# Altium integrated library Resistors.IntLib: 4954 symbols (part 5 of 32)
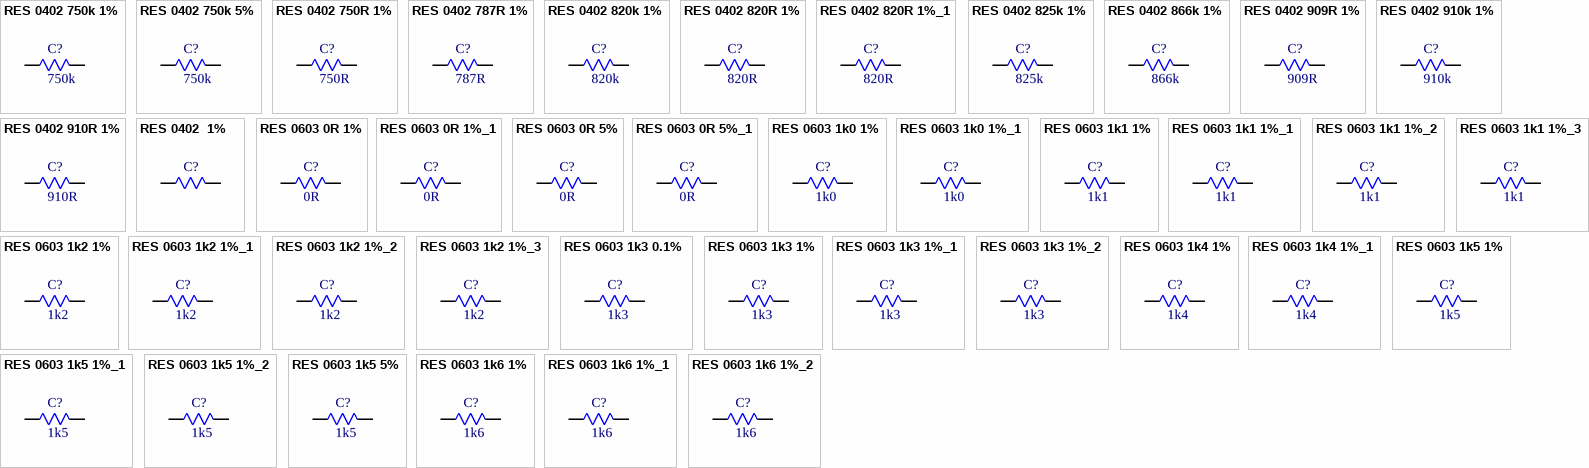
[diagram p127: symbols RES 0402 750k 1% to RES 0603 1k6 1%_2]

## RES 0603 1k5 1%_2
designator C?, comment 1k5
100mW 1.5kR 75V Thick Film Resistor 1% 0603 Chip Resistor - Surface Mount RoHS; Manufacturer: FOJAN; Manufacturer Part Number: FRR0603F1501TS; Supplier: LCSC; Supplier Part Number: C52033509; Resistance: 1k5; Tolerance: 1%; Voltage Rating: 75V; Power: 100mW
footprint RES SMD 0603
pins: 1, 2

## RES 0603 1k5 5%
designator C?, comment 1k5
1.5kR 5% 100mW 0603 Thick Film Resistor; Manufacturer: FOJAN; Manufacturer Part Number: FRC0603J152 TS; Voltage Rating: 75V; Supplier: LCSC; Supplier Part Number: C2907083; Resistance: 1k5; Tolerance: 5%; Power: 100mW
footprint RES SMD 0603
pins: 1, 2

## RES 0603 1k6 1%
designator C?, comment 1k6
1.69kR 1% 100mW 0603 Thick Film Resistor; Manufacturer: FOJAN; Manufacturer Part Number: FRC0603F1691TS; Voltage Rating: 75V; Supplier: LCSC; Supplier Part Number: C2933157; Resistance: 1k6; Tolerance: 1%; Power: 100mW
footprint RES SMD 0603
pins: 1, 2

## RES 0603 1k6 1%_1
designator C?, comment 1k6
1.6kR 1% 100mW 0603 Thick Film Resistor; Manufacturer: FOJAN; Manufacturer Part Number: FRC0603F1601TS; Voltage Rating: 75V; Supplier: LCSC; Supplier Part Number: C2930052; Resistance: 1k6; Tolerance: 1%; Power: 100mW
footprint RES SMD 0603
pins: 1, 2

## RES 0603 1k6 1%_2
designator C?, comment 1k6
100mW 1.6kR 75V Thick Film Resistor 100ppm/â„ƒ 1% 0603 Chip Resistor - Surface Mount RoHS; Manufacturer: FOJAN; Manufacturer Part Number: FRQ0603F1601TS; Supplier: LCSC; Supplier Part Number: C49196901; Resistance: 1k6; Tolerance: 1%; Voltage Rating: 75V; Power: 100mW
footprint RES SMD 0603
pins: 1, 2

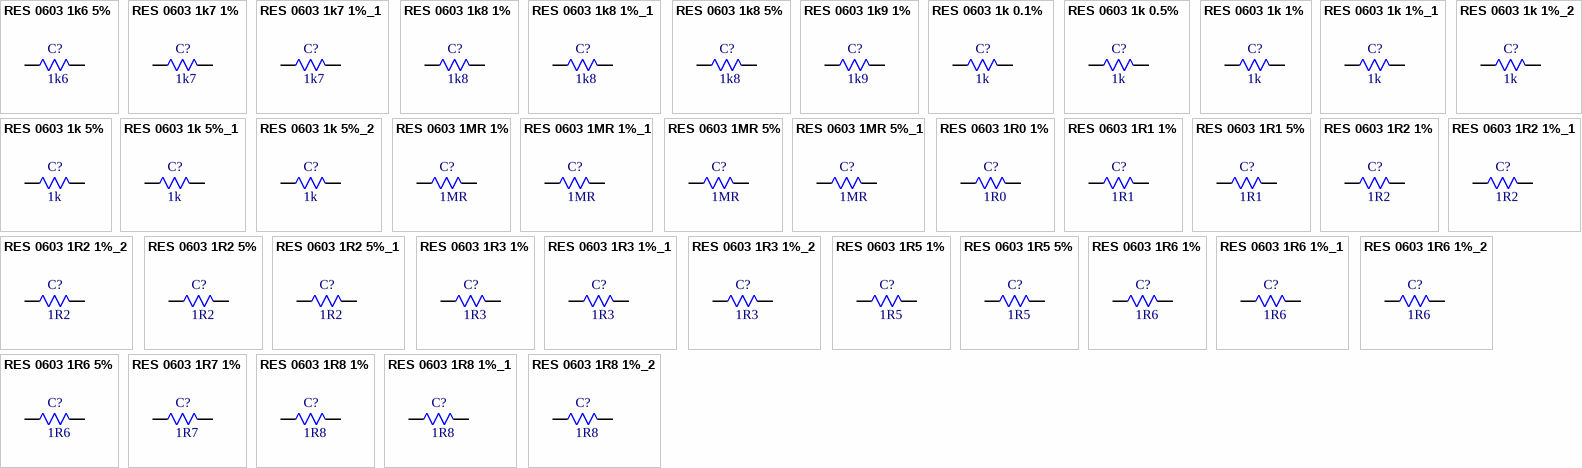
[diagram p16: symbols RES 0603 1k6 5% to RES 0603 1R8 1%_2]

## RES 0603 1k6 5%
designator C?, comment 1k6
1.6kR 5% 100mW 0603 Thick Film Resistor; Manufacturer: FOJAN; Manufacturer Part Number: FRC0603J162 TS; Voltage Rating: 75V; Supplier: LCSC; Supplier Part Number: C2907085; Resistance: 1k6; Tolerance: 5%; Power: 100mW
footprint RES SMD 0603
pins: 1, 2

## RES 0603 1k7 1%
designator C?, comment 1k7
1.74kR 1% 100mW 0603 Thick Film Resistor; Manufacturer: FOJAN; Manufacturer Part Number: FRC0603F1741TS; Voltage Rating: 75V; Supplier: LCSC; Supplier Part Number: C2930053; Resistance: 1k7; Tolerance: 1%; Power: 100mW
footprint RES SMD 0603
pins: 1, 2

## RES 0603 1k7 1%_1
designator C?, comment 1k7
1.78kR 1% 100mW 0603 Thick Film Resistor; Manufacturer: FOJAN; Manufacturer Part Number: FRC0603F1781TS; Voltage Rating: 75V; Supplier: LCSC; Supplier Part Number: C2974030; Resistance: 1k7; Tolerance: 1%; Power: 100mW
footprint RES SMD 0603
pins: 1, 2

## RES 0603 1k8 1%
designator C?, comment 1k8
1.8kR 1% 100mW 0603 Thick Film Resistor; Manufacturer: FOJAN; Manufacturer Part Number: FRC0603F1801TS; Voltage Rating: 75V; Supplier: LCSC; Supplier Part Number: C2906979; Resistance: 1k8; Tolerance: 1%; Power: 100mW
footprint RES SMD 0603
pins: 1, 2

## RES 0603 1k8 1%_1
designator C?, comment 1k8
100mW 1.8kR 75V Thick Film Resistor 1% 0603 Chip Resistor - Surface Mount RoHS; Manufacturer: FOJAN; Manufacturer Part Number: FRQ0603F1801TS; Supplier: LCSC; Supplier Part Number: C51048243; Resistance: 1k8; Tolerance: 1%; Voltage Rating: 75V; Power: 100mW
footprint RES SMD 0603
pins: 1, 2

## RES 0603 1k8 5%
designator C?, comment 1k8
1.8kR 5% 100mW 0603 Thick Film Resistor; Manufacturer: FOJAN; Manufacturer Part Number: FRC0603J182 TS; Voltage Rating: 75V; Supplier: LCSC; Supplier Part Number: C2907086; Resistance: 1k8; Tolerance: 5%; Power: 100mW
footprint RES SMD 0603
pins: 1, 2

## RES 0603 1k9 1%
designator C?, comment 1k9
1.96kR 1% 100mW 0603 Thick Film Resistor; Manufacturer: FOJAN; Manufacturer Part Number: FRC0603F1961TS; Voltage Rating: 75V; Supplier: LCSC; Supplier Part Number: C2998107; Resistance: 1k9; Tolerance: 1%; Power: 100mW
footprint RES SMD 0603
pins: 1, 2

## RES 0603 1k 0.1%
designator C?, comment 1k
100mW 1kR 75V Thick Film Resistor 100ppm/â„ƒ 0.1% 0603 Chip Resistor - Surface Mount RoHS; Manufacturer: FOJAN; Manufacturer Part Number: FRH0603B1001TS; Supplier: LCSC; Supplier Part Number: C49196685; Resistance: 1k; Tolerance: 0.1%; Voltage Rating: 75V; Power: 100mW
footprint RES SMD 0603
pins: 1, 2

## RES 0603 1k 0.5%
designator C?, comment 1k
1kR 0.5% 100mW 0603 Thick Film Resistor; Manufacturer: FOJAN; Manufacturer Part Number: FRH0603D1001TSV; Voltage Rating: 75V; Supplier: LCSC; Supplier Part Number: C3013341; Resistance: 1k; Tolerance: 0.5%; Power: 100mW
footprint RES SMD 0603
pins: 1, 2

## RES 0603 1k 1%
designator C?, comment 1k
1kR 1% 100mW 0603 Thick Film Resistor; Manufacturer: FOJAN; Manufacturer Part Number: FRC0603F1001TS; Voltage Rating: 75V; Supplier: LCSC; Supplier Part Number: C2907002; Resistance: 1k; Tolerance: 1%; Power: 100mW
footprint RES SMD 0603
pins: 1, 2

## RES 0603 1k 1%_1
designator C?, comment 1k
100mW 1kR 75V Thick Film Resistor 1% 100ppm/â„ƒ 0603 Chip Resistor - Surface Mount RoHS; Manufacturer: FOJAN; Manufacturer Part Number: FRQ0603F1001TS; Supplier: LCSC; Supplier Part Number: C7468527; Resistance: 1k; Tolerance: 1%; Voltage Rating: 75V; Power: 100mW
footprint RES SMD 0603
pins: 1, 2

## RES 0603 1k 1%_2
designator C?, comment 1k
1kR 100mW 75V Thick Film Resistor 1% 0603 Chip Resistor - Surface Mount RoHS; Manufacturer: FOJAN; Manufacturer Part Number: FRR0603F1001TS; Supplier: LCSC; Supplier Part Number: C51048202; Resistance: 1k; Tolerance: 1%; Voltage Rating: 75V; Power: 100mW
footprint RES SMD 0603
pins: 1, 2

## RES 0603 1k 5%
designator C?, comment 1k
1kR 5% 100mW 0603 Thick Film Resistor AEC-Q200; Manufacturer: FOJAN; Manufacturer Part Number: FRQ0603J102 TS; Voltage Rating: 75V; Supplier: LCSC; Supplier Part Number: C2934391; Resistance: 1k; Tolerance: 5%; Power: 100mW
footprint RES SMD 0603
pins: 1, 2

## RES 0603 1k 5%_1
designator C?, comment 1k
1kR 5% 100mW 0603 Thick Film Resistor; Manufacturer: FOJAN; Manufacturer Part Number: FRC0603J102 TS; Voltage Rating: 75V; Supplier: LCSC; Supplier Part Number: C2907113; Resistance: 1k; Tolerance: 5%; Power: 100mW
footprint RES SMD 0603
pins: 1, 2

## RES 0603 1k 5%_2
designator C?, comment 1k
1kR 100mW 75V Thick Film Resistor 100ppm/â„ƒ 5% 0603 Chip Resistor - Surface Mount RoHS; Manufacturer: FOJAN; Manufacturer Part Number: FRR0603J102 TS; Supplier: LCSC; Supplier Part Number: C49196793; Resistance: 1k; Tolerance: 5%; Voltage Rating: 75V; Power: 100mW
footprint RES SMD 0603
pins: 1, 2

## RES 0603 1MR 1%
designator C?, comment 1MR
1MR 1% 100mW 0603 Thick Film Resistor; Manufacturer: FOJAN; Manufacturer Part Number: FRC0603F1004TS; Voltage Rating: 75V; Supplier: LCSC; Supplier Part Number: C2907003; Resistance: 1MR; Tolerance: 1%; Power: 100mW
footprint RES SMD 0603
pins: 1, 2

## RES 0603 1MR 1%_1
designator C?, comment 1MR
100mW 1MR 75V Thick Film Resistor 1% 0603 Chip Resistor - Surface Mount RoHS; Manufacturer: FOJAN; Manufacturer Part Number: FRQ0603F1004TS; Supplier: LCSC; Supplier Part Number: C51048116; Resistance: 1MR; Tolerance: 1%; Voltage Rating: 75V; Power: 100mW
footprint RES SMD 0603
pins: 1, 2

## RES 0603 1MR 5%
designator C?, comment 1MR
1MR 5% 100mW 0603 Thick Film Resistor; Manufacturer: FOJAN; Manufacturer Part Number: FRC0603J105 TS; Voltage Rating: 75V; Supplier: LCSC; Supplier Part Number: C2907115; Resistance: 1MR; Tolerance: 5%; Power: 100mW
footprint RES SMD 0603
pins: 1, 2

## RES 0603 1MR 5%_1
designator C?, comment 1MR
1MR 5% 100mW 0603 Thick Film Resistor AEC-Q200; Manufacturer: FOJAN; Manufacturer Part Number: FRQ0603J105 TS; Voltage Rating: 75V; Supplier: LCSC; Supplier Part Number: C2934393; Resistance: 1MR; Tolerance: 5%; Power: 100mW
footprint RES SMD 0603
pins: 1, 2

## RES 0603 1R0 1%
designator C?, comment 1R0
1.05MR 1% 100mW 0603 Thick Film Resistor; Manufacturer: FOJAN; Manufacturer Part Number: FRC0603F1054TS; Voltage Rating: 75V; Supplier: LCSC; Supplier Part Number: C5126052; Resistance: 1R0; Tolerance: 1%; Power: 100mW
footprint RES SMD 0603
pins: 1, 2

## RES 0603 1R1 1%
designator C?, comment 1R1
1.1MR 1% 100mW 0603 Thick Film Resistor; Manufacturer: FOJAN; Manufacturer Part Number: FRC0603F1104TS; Voltage Rating: 75V; Supplier: LCSC; Supplier Part Number: C2930138; Resistance: 1R1; Tolerance: 1%; Power: 100mW
footprint RES SMD 0603
pins: 1, 2

## RES 0603 1R1 5%
designator C?, comment 1R1
1.1R 5% 100mW 0603 Thick Film Resistor; Manufacturer: FOJAN; Manufacturer Part Number: FRC0603J1R1TS; Voltage Rating: 75V; Supplier: LCSC; Supplier Part Number: C2930019; Resistance: 1R1; Tolerance: 5%; Power: 100mW
footprint RES SMD 0603
pins: 1, 2

## RES 0603 1R2 1%
designator C?, comment 1R2
1.2R 1% 100mW 0603 Thick Film Resistor; Manufacturer: FOJAN; Manufacturer Part Number: FRC0603F1R20TS; Voltage Rating: 75V; Supplier: LCSC; Supplier Part Number: C2930141; Resistance: 1R2; Tolerance: 1%; Power: 100mW
footprint RES SMD 0603
pins: 1, 2

## RES 0603 1R2 1%_1
designator C?, comment 1R2
1.27MR 1% 100mW 0603 Thick Film Resistor; Manufacturer: FOJAN; Manufacturer Part Number: FRC0603F1274TS; Voltage Rating: 75V; Supplier: LCSC; Supplier Part Number: C5713278; Resistance: 1R2; Tolerance: 1%; Power: 100mW
footprint RES SMD 0603
pins: 1, 2

## RES 0603 1R2 1%_2
designator C?, comment 1R2
1.2MR 1% 100mW 0603 Thick Film Resistor; Manufacturer: FOJAN; Manufacturer Part Number: FRC0603F1204TS; Voltage Rating: 75V; Supplier: LCSC; Supplier Part Number: C2930140; Resistance: 1R2; Tolerance: 1%; Power: 100mW
footprint RES SMD 0603
pins: 1, 2

## RES 0603 1R2 5%
designator C?, comment 1R2
1.2MR 5% 100mW 0603 Thick Film Resistor; Manufacturer: FOJAN; Manufacturer Part Number: FRC0603J125TS; Voltage Rating: 75V; Supplier: LCSC; Supplier Part Number: C2930020; Resistance: 1R2; Tolerance: 5%; Power: 100mW
footprint RES SMD 0603
pins: 1, 2

## RES 0603 1R2 5%_1
designator C?, comment 1R2
1.2MR 5% 100mW 0603 Thick Film Resistor AEC-Q200; Manufacturer: FOJAN; Manufacturer Part Number: FRQ0603J125 TS; Voltage Rating: 75V; Supplier: LCSC; Supplier Part Number: C2934394; Resistance: 1R2; Tolerance: 5%; Power: 100mW
footprint RES SMD 0603
pins: 1, 2

## RES 0603 1R3 1%
designator C?, comment 1R3
1.3R 1% 100mW 0603 Thick Film Resistor; Manufacturer: FOJAN; Manufacturer Part Number: FRC0603F1R30TS; Voltage Rating: 75V; Supplier: LCSC; Supplier Part Number: C3013194; Resistance: 1R3; Tolerance: 1%; Power: 100mW
footprint RES SMD 0603
pins: 1, 2

## RES 0603 1R3 1%_1
designator C?, comment 1R3
1.3MR 1% 100mW 0603 Thick Film Resistor; Manufacturer: FOJAN; Manufacturer Part Number: FRC0603F1304TS; Voltage Rating: 75V; Supplier: LCSC; Supplier Part Number: C2974026; Resistance: 1R3; Tolerance: 1%; Power: 100mW
footprint RES SMD 0603
pins: 1, 2

## RES 0603 1R3 1%_2
designator C?, comment 1R3
1.33MR 1% 100mW 0603 Thick Film Resistor; Manufacturer: FOJAN; Manufacturer Part Number: FRC0603F1334TS; Voltage Rating: 75V; Supplier: LCSC; Supplier Part Number: C5126053; Resistance: 1R3; Tolerance: 1%; Power: 100mW
footprint RES SMD 0603
pins: 1, 2

## RES 0603 1R5 1%
designator C?, comment 1R5
1.5MR 1% 100mW 0603 Thick Film Resistor; Manufacturer: FOJAN; Manufacturer Part Number: FRC0603F1504TS; Voltage Rating: 75V; Supplier: LCSC; Supplier Part Number: C2930143; Resistance: 1R5; Tolerance: 1%; Power: 100mW
footprint RES SMD 0603
pins: 1, 2

## RES 0603 1R5 5%
designator C?, comment 1R5
1.5MR 5% 100mW 0603 Thick Film Resistor; Manufacturer: FOJAN; Manufacturer Part Number: FRC0603J155TS; Voltage Rating: 75V; Supplier: LCSC; Supplier Part Number: C2930024; Resistance: 1R5; Tolerance: 5%; Power: 100mW
footprint RES SMD 0603
pins: 1, 2

## RES 0603 1R6 1%
designator C?, comment 1R6
1.6R 1% 100mW 0603 Thick Film Resistor; Manufacturer: FOJAN; Manufacturer Part Number: FRC0603F1R60TS; Voltage Rating: 75V; Supplier: LCSC; Supplier Part Number: C2930144; Resistance: 1R6; Tolerance: 1%; Power: 100mW
footprint RES SMD 0603
pins: 1, 2

## RES 0603 1R6 1%_1
designator C?, comment 1R6
1.65MR 1% 100mW 0603 Thick Film Resistor; Manufacturer: FOJAN; Manufacturer Part Number: FRC0603F1654TS; Voltage Rating: 75V; Supplier: LCSC; Supplier Part Number: C2999469; Resistance: 1R6; Tolerance: 1%; Power: 100mW
footprint RES SMD 0603
pins: 1, 2

## RES 0603 1R6 1%_2
designator C?, comment 1R6
1.6MR 1% 100mW 0603 Thick Film Resistor; Manufacturer: FOJAN; Manufacturer Part Number: FRC0603F1604TS; Voltage Rating: 75V; Supplier: LCSC; Supplier Part Number: C2999520; Resistance: 1R6; Tolerance: 1%; Power: 100mW
footprint RES SMD 0603
pins: 1, 2

## RES 0603 1R6 5%
designator C?, comment 1R6
1.6MR 5% 100mW 0603 Thick Film Resistor; Manufacturer: FOJAN; Manufacturer Part Number: FRC0603J165 TS; Voltage Rating: 75V; Supplier: LCSC; Supplier Part Number: C2933272; Resistance: 1R6; Tolerance: 5%; Power: 100mW
footprint RES SMD 0603
pins: 1, 2

## RES 0603 1R7 1%
designator C?, comment 1R7
1.74MR 1% 100mW 0603 Thick Film Resistor; Manufacturer: FOJAN; Manufacturer Part Number: FRC0603F1744TS; Voltage Rating: 75V; Supplier: LCSC; Supplier Part Number: C5126100; Resistance: 1R7; Tolerance: 1%; Power: 100mW
footprint RES SMD 0603
pins: 1, 2

## RES 0603 1R8 1%
designator C?, comment 1R8
1.8R 1% 100mW 0603 Thick Film Resistor; Manufacturer: FOJAN; Manufacturer Part Number: FRC0603F1R80TS; Voltage Rating: 75V; Supplier: LCSC; Supplier Part Number: C2933167; Resistance: 1R8; Tolerance: 1%; Power: 100mW
footprint RES SMD 0603
pins: 1, 2

## RES 0603 1R8 1%_1
designator C?, comment 1R8
1.8MR 1% 100mW 0603 Thick Film Resistor; Manufacturer: FOJAN; Manufacturer Part Number: FRC0603F1804TS; Voltage Rating: 75V; Supplier: LCSC; Supplier Part Number: C2933162; Resistance: 1R8; Tolerance: 1%; Power: 100mW
footprint RES SMD 0603
pins: 1, 2

## RES 0603 1R8 1%_2
designator C?, comment 1R8
1.82MR 1% 100mW 0603 Thick Film Resistor; Manufacturer: FOJAN; Manufacturer Part Number: FRC0603F1824TS; Voltage Rating: 75V; Supplier: LCSC; Supplier Part Number: C2998105; Resistance: 1R8; Tolerance: 1%; Power: 100mW
footprint RES SMD 0603
pins: 1, 2

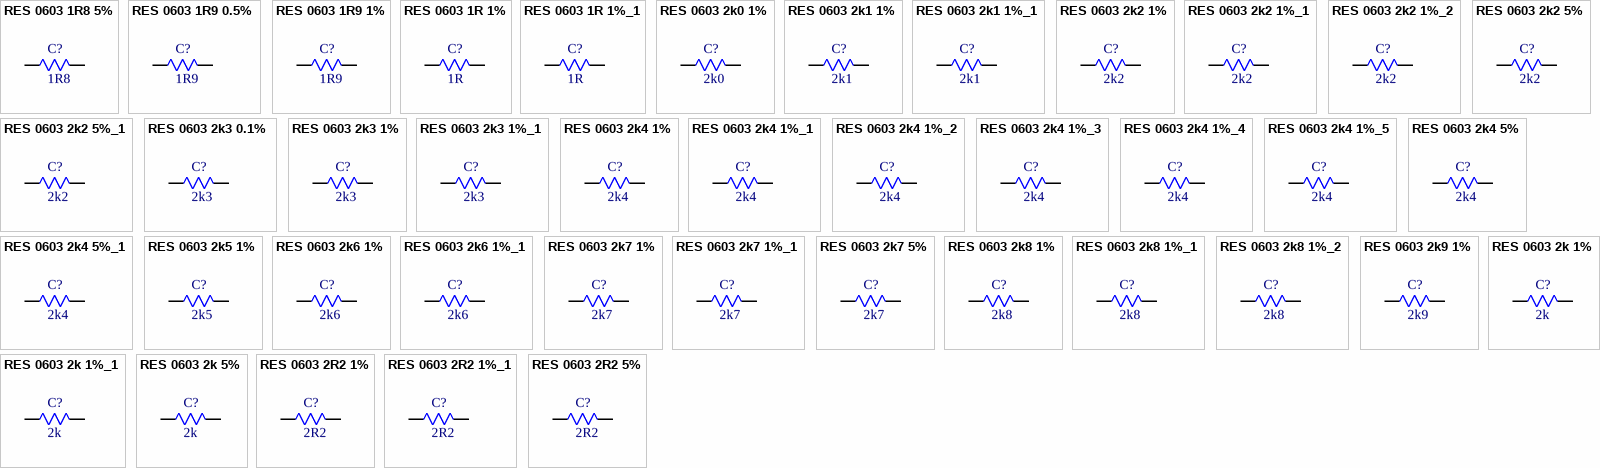
[diagram p17: symbols RES 0603 1R8 5% to RES 0603 2R2 5%]

## RES 0603 1R8 5%
designator C?, comment 1R8
1.8MR 5% 100mW 0603 Thick Film Resistor; Manufacturer: FOJAN; Manufacturer Part Number: FRC0603J185TS; Voltage Rating: 75V; Supplier: LCSC; Supplier Part Number: C2930026; Resistance: 1R8; Tolerance: 5%; Power: 100mW
footprint RES SMD 0603
pins: 1, 2

## RES 0603 1R9 0.5%
designator C?, comment 1R9
100mW 1.91MR 75V Thick Film Resistor 100ppm/â„ƒ 0.5% 0603 Chip Resistor - Surface Mount RoHS; Manufacturer: FOJAN; Manufacturer Part Number: FRH0603D1914TS; Supplier: LCSC; Supplier Part Number: C49196898; Resistance: 1R9; Tolerance: 0.5%; Voltage Rating: 75V; Power: 100mW
footprint RES SMD 0603
pins: 1, 2

## RES 0603 1R9 1%
designator C?, comment 1R9
1.96MR 1% 100mW 0603 Thick Film Resistor; Manufacturer: FOJAN; Manufacturer Part Number: FRC0603F1964TS; Voltage Rating: 75V; Supplier: LCSC; Supplier Part Number: C5126101; Resistance: 1R9; Tolerance: 1%; Power: 100mW
footprint RES SMD 0603
pins: 1, 2

## RES 0603 1R 1%
designator C?, comment 1R
1R 1% 100mW 0603 Thick Film Resistor; Manufacturer: FOJAN; Manufacturer Part Number: FRC0603F1R00TS; Voltage Rating: 75V; Supplier: LCSC; Supplier Part Number: C2907004; Resistance: 1R; Tolerance: 1%; Power: 100mW
footprint RES SMD 0603
pins: 1, 2

## RES 0603 1R 1%_1
designator C?, comment 1R
1R 100mW 75V Thick Film Resistor 200ppm/â„ƒ 1% 0603 Chip Resistor - Surface Mount RoHS; Manufacturer: FOJAN; Manufacturer Part Number: FRQ0603F1R00TS; Supplier: LCSC; Supplier Part Number: C7468661; Resistance: 1R; Tolerance: 1%; Voltage Rating: 75V; Power: 100mW
footprint RES SMD 0603
pins: 1, 2

## RES 0603 2k0 1%
designator C?, comment 2k0
2.05kR 1% 100mW 0603 Thick Film Resistor; Manufacturer: FOJAN; Manufacturer Part Number: FRC0603F2051TS; Voltage Rating: 75V; Supplier: LCSC; Supplier Part Number: C2998113; Resistance: 2k0; Tolerance: 1%; Power: 100mW
footprint RES SMD 0603
pins: 1, 2

## RES 0603 2k1 1%
designator C?, comment 2k1
2.15kR 1% 100mW 0603 Thick Film Resistor; Manufacturer: FOJAN; Manufacturer Part Number: FRC0603F2151TS; Voltage Rating: 75V; Supplier: LCSC; Supplier Part Number: C2960889; Resistance: 2k1; Tolerance: 1%; Power: 100mW
footprint RES SMD 0603
pins: 1, 2

## RES 0603 2k1 1%_1
designator C?, comment 2k1
2.1kR 1% 100mW 0603 Thick Film Resistor; Manufacturer: FOJAN; Manufacturer Part Number: FRC0603F2101TS; Voltage Rating: 75V; Supplier: LCSC; Supplier Part Number: C2960801; Resistance: 2k1; Tolerance: 1%; Power: 100mW
footprint RES SMD 0603
pins: 1, 2

## RES 0603 2k2 1%
designator C?, comment 2k2
2.2kR 1% 100mW 0603 Thick Film Resistor; Manufacturer: FOJAN; Manufacturer Part Number: FRC0603F2201TS; Voltage Rating: 75V; Supplier: LCSC; Supplier Part Number: C2907005; Resistance: 2k2; Tolerance: 1%; Power: 100mW
footprint RES SMD 0603
pins: 1, 2

## RES 0603 2k2 1%_1
designator C?, comment 2k2
2.21kR 1% 100mW 0603 Thick Film Resistor; Manufacturer: FOJAN; Manufacturer Part Number: FRC0603F2211TS; Voltage Rating: 75V; Supplier: LCSC; Supplier Part Number: C2933171; Resistance: 2k2; Tolerance: 1%; Power: 100mW
footprint RES SMD 0603
pins: 1, 2

## RES 0603 2k2 1%_2
designator C?, comment 2k2
2.2kR 1% 100mW 0603 Thick Film Resistor AEC-Q200; Manufacturer: FOJAN; Manufacturer Part Number: FRQ0603F2201TS; Voltage Rating: 75V; Supplier: LCSC; Supplier Part Number: C5713434; Resistance: 2k2; Tolerance: 1%; Power: 100mW
footprint RES SMD 0603
pins: 1, 2

## RES 0603 2k2 5%
designator C?, comment 2k2
2.2kR 5% 100mW 0603 Thick Film Resistor; Manufacturer: FOJAN; Manufacturer Part Number: FRC0603J222 TS; Voltage Rating: 75V; Supplier: LCSC; Supplier Part Number: C2907117; Resistance: 2k2; Tolerance: 5%; Power: 100mW
footprint RES SMD 0603
pins: 1, 2

## RES 0603 2k2 5%_1
designator C?, comment 2k2
2.2kR 100mW 75V Thick Film Resistor 100ppm/â„ƒ 5% 0603 Chip Resistor - Surface Mount RoHS; Manufacturer: FOJAN; Manufacturer Part Number: FRR0603J222 TS; Supplier: LCSC; Supplier Part Number: C49196799; Resistance: 2k2; Tolerance: 5%; Voltage Rating: 75V; Power: 100mW
footprint RES SMD 0603
pins: 1, 2

## RES 0603 2k3 0.1%
designator C?, comment 2k3
100mW 2.37kR 75V Thick Film Resistor 100ppm/â„ƒ 0.1% 0603 Chip Resistor - Surface Mount RoHS; Manufacturer: FOJAN; Manufacturer Part Number: FRH0603B2371TS; Supplier: LCSC; Supplier Part Number: C49010119; Resistance: 2k3; Tolerance: 0.1%; Voltage Rating: 75V; Power: 100mW
footprint RES SMD 0603
pins: 1, 2

## RES 0603 2k3 1%
designator C?, comment 2k3
2.32kR 1% 100mW 0603 Thick Film Resistor; Manufacturer: FOJAN; Manufacturer Part Number: FRC0603F2321TS; Voltage Rating: 75V; Supplier: LCSC; Supplier Part Number: C2933173; Resistance: 2k3; Tolerance: 1%; Power: 100mW
footprint RES SMD 0603
pins: 1, 2

## RES 0603 2k3 1%_1
designator C?, comment 2k3
2.37kR 1% 100mW 0603 Thick Film Resistor; Manufacturer: FOJAN; Manufacturer Part Number: FRC0603F2371TS; Voltage Rating: 75V; Supplier: LCSC; Supplier Part Number: C2933174; Resistance: 2k3; Tolerance: 1%; Power: 100mW
footprint RES SMD 0603
pins: 1, 2

## RES 0603 2k4 1%
designator C?, comment 2k4
2.49kR 1% 100mW 0603 Thick Film Resistor; Manufacturer: FOJAN; Manufacturer Part Number: FRC0603F2491TS; Voltage Rating: 75V; Supplier: LCSC; Supplier Part Number: C2930072; Resistance: 2k4; Tolerance: 1%; Power: 100mW
footprint RES SMD 0603
pins: 1, 2

## RES 0603 2k4 1%_1
designator C?, comment 2k4
2.4kR 1% 100mW 0603 Thick Film Resistor; Manufacturer: FOJAN; Manufacturer Part Number: FRC0603F2401TS; Voltage Rating: 75V; Supplier: LCSC; Supplier Part Number: C2907007; Resistance: 2k4; Tolerance: 1%; Power: 100mW
footprint RES SMD 0603
pins: 1, 2

## RES 0603 2k4 1%_2
designator C?, comment 2k4
2.43kR 1% 100mW 0603 Thick Film Resistor; Manufacturer: FOJAN; Manufacturer Part Number: FRC0603F2431TS; Voltage Rating: 75V; Supplier: LCSC; Supplier Part Number: C2960715; Resistance: 2k4; Tolerance: 1%; Power: 100mW
footprint RES SMD 0603
pins: 1, 2

## RES 0603 2k4 1%_3
designator C?, comment 2k4
100mW 2.43kR 75V Thick Film Resistor 100ppm/â„ƒ 1% 0603 Chip Resistor - Surface Mount RoHS; Manufacturer: FOJAN; Manufacturer Part Number: FRR0603F2431TS; Supplier: LCSC; Supplier Part Number: C49196766; Resistance: 2k4; Tolerance: 1%; Voltage Rating: 75V; Power: 100mW
footprint RES SMD 0603
pins: 1, 2

## RES 0603 2k4 1%_4
designator C?, comment 2k4
2.4kR 100mW 75V Thick Film Resistor 1% 100ppm/â„ƒ 0603 Chip Resistor - Surface Mount RoHS; Manufacturer: FOJAN; Manufacturer Part Number: FRQ0603F2401TS; Supplier: LCSC; Supplier Part Number: C7468683; Resistance: 2k4; Tolerance: 1%; Voltage Rating: 75V; Power: 100mW
footprint RES SMD 0603
pins: 1, 2

## RES 0603 2k4 1%_5
designator C?, comment 2k4
2.49kR 100mW Thick Film Resistor 1% 100ppm/â„ƒ 0603 Chip Resistor - Surface Mount RoHS; Manufacturer: FOJAN; Manufacturer Part Number: FRQ0603F2491TS; Supplier: LCSC; Supplier Part Number: C7468533; Resistance: 2k4; Tolerance: 1%; Power: 100mW
footprint RES SMD 0603
pins: 1, 2

## RES 0603 2k4 5%
designator C?, comment 2k4
2.4kR 5% 100mW 0603 Thick Film Resistor; Manufacturer: FOJAN; Manufacturer Part Number: FRC0603J242 TS; Voltage Rating: 75V; Supplier: LCSC; Supplier Part Number: C2907118; Resistance: 2k4; Tolerance: 5%; Power: 100mW
footprint RES SMD 0603
pins: 1, 2

## RES 0603 2k4 5%_1
designator C?, comment 2k4
2.4kR 5% 100mW 0603 Thick Film Resistor AEC-Q200; Manufacturer: FOJAN; Manufacturer Part Number: FRQ0603J242 TS; Voltage Rating: 75V; Supplier: LCSC; Supplier Part Number: C5713445; Resistance: 2k4; Tolerance: 5%; Power: 100mW
footprint RES SMD 0603
pins: 1, 2

## RES 0603 2k5 1%
designator C?, comment 2k5
2.55kR 1% 100mW 0603 Thick Film Resistor; Manufacturer: FOJAN; Manufacturer Part Number: FRC0603F2551TS; Voltage Rating: 75V; Supplier: LCSC; Supplier Part Number: C2933178; Resistance: 2k5; Tolerance: 1%; Power: 100mW
footprint RES SMD 0603
pins: 1, 2

## RES 0603 2k6 1%
designator C?, comment 2k6
2.67kR 1% 100mW 0603 Thick Film Resistor; Manufacturer: FOJAN; Manufacturer Part Number: FRC0603F2671TS; Voltage Rating: 75V; Supplier: LCSC; Supplier Part Number: C2933184; Resistance: 2k6; Tolerance: 1%; Power: 100mW
footprint RES SMD 0603
pins: 1, 2

## RES 0603 2k6 1%_1
designator C?, comment 2k6
2.61kR 1% 100mW 0603 Thick Film Resistor; Manufacturer: FOJAN; Manufacturer Part Number: FRC0603F2611TS; Voltage Rating: 75V; Supplier: LCSC; Supplier Part Number: C2933181; Resistance: 2k6; Tolerance: 1%; Power: 100mW
footprint RES SMD 0603
pins: 1, 2

## RES 0603 2k7 1%
designator C?, comment 2k7
2.7kR 1% 100mW 0603 Thick Film Resistor; Manufacturer: FOJAN; Manufacturer Part Number: FRC0603F2701TS; Voltage Rating: 75V; Supplier: LCSC; Supplier Part Number: C2907008; Resistance: 2k7; Tolerance: 1%; Power: 100mW
footprint RES SMD 0603
pins: 1, 2

## RES 0603 2k7 1%_1
designator C?, comment 2k7
2.7kR 1% 100mW 0603 Thick Film Resistor AEC-Q200; Manufacturer: FOJAN; Manufacturer Part Number: FRQ0603F2701TS; Voltage Rating: 75V; Supplier: LCSC; Supplier Part Number: C5713435; Resistance: 2k7; Tolerance: 1%; Power: 100mW
footprint RES SMD 0603
pins: 1, 2

## RES 0603 2k7 5%
designator C?, comment 2k7
2.7kR 5% 100mW 0603 Thick Film Resistor; Manufacturer: FOJAN; Manufacturer Part Number: FRC0603J272 TS; Voltage Rating: 75V; Supplier: LCSC; Supplier Part Number: C2907121; Resistance: 2k7; Tolerance: 5%; Power: 100mW
footprint RES SMD 0603
pins: 1, 2

## RES 0603 2k8 1%
designator C?, comment 2k8
2.8kR 1% 100mW 0603 Thick Film Resistor; Manufacturer: FOJAN; Manufacturer Part Number: FRC0603F2801TS; Voltage Rating: 75V; Supplier: LCSC; Supplier Part Number: C2933188; Resistance: 2k8; Tolerance: 1%; Power: 100mW
footprint RES SMD 0603
pins: 1, 2

## RES 0603 2k8 1%_1
designator C?, comment 2k8
2.8kR 100mW 75V Thick Film Resistor 100ppm/â„ƒ 1% 0603 Chip Resistor - Surface Mount RoHS; Manufacturer: FOJAN; Manufacturer Part Number: FRR0603F2801TS; Supplier: LCSC; Supplier Part Number: C49196769; Resistance: 2k8; Tolerance: 1%; Voltage Rating: 75V; Power: 100mW
footprint RES SMD 0603
pins: 1, 2

## RES 0603 2k8 1%_2
designator C?, comment 2k8
2.87kR 1% 100mW 0603 Thick Film Resistor; Manufacturer: FOJAN; Manufacturer Part Number: FRC0603F2871TS; Voltage Rating: 75V; Supplier: LCSC; Supplier Part Number: C2933189; Resistance: 2k8; Tolerance: 1%; Power: 100mW
footprint RES SMD 0603
pins: 1, 2

## RES 0603 2k9 1%
designator C?, comment 2k9
2.94kR 1% 100mW 0603 Thick Film Resistor; Manufacturer: FOJAN; Manufacturer Part Number: FRC0603F2941TS; Voltage Rating: 75V; Supplier: LCSC; Supplier Part Number: C2933190; Resistance: 2k9; Tolerance: 1%; Power: 100mW
footprint RES SMD 0603
pins: 1, 2

## RES 0603 2k 1%
designator C?, comment 2k
2kR 1% 100mW 0603 Thick Film Resistor; Manufacturer: FOJAN; Manufacturer Part Number: FRC0603F2001TS; Voltage Rating: 75V; Supplier: LCSC; Supplier Part Number: C2907022; Resistance: 2k; Tolerance: 1%; Power: 100mW
footprint RES SMD 0603
pins: 1, 2

## RES 0603 2k 1%_1
designator C?, comment 2k
2kR 1% 100mW 0603 Thick Film Resistor AEC-Q200; Manufacturer: FOJAN; Manufacturer Part Number: FRQ0603F2001TS; Voltage Rating: 75V; Supplier: LCSC; Supplier Part Number: C5713433; Resistance: 2k; Tolerance: 1%; Power: 100mW
footprint RES SMD 0603
pins: 1, 2

## RES 0603 2k 5%
designator C?, comment 2k
2kR 5% 100mW 0603 Thick Film Resistor; Manufacturer: FOJAN; Manufacturer Part Number: FRC0603J202 TS; Voltage Rating: 75V; Supplier: LCSC; Supplier Part Number: C2907137; Resistance: 2k; Tolerance: 5%; Power: 100mW
footprint RES SMD 0603
pins: 1, 2

## RES 0603 2R2 1%
designator C?, comment 2R2
2.2R 1% 100mW 0603 Thick Film Resistor; Manufacturer: FOJAN; Manufacturer Part Number: FRC0603F2R20TS; Voltage Rating: 75V; Supplier: LCSC; Supplier Part Number: C2907006; Resistance: 2R2; Tolerance: 1%; Power: 100mW
footprint RES SMD 0603
pins: 1, 2

## RES 0603 2R2 1%_1
designator C?, comment 2R2
2.2MR 1% 100mW 0603 Thick Film Resistor; Manufacturer: FOJAN; Manufacturer Part Number: FRC0603F2204TS; Voltage Rating: 75V; Supplier: LCSC; Supplier Part Number: C2933170; Resistance: 2R2; Tolerance: 1%; Power: 100mW
footprint RES SMD 0603
pins: 1, 2

## RES 0603 2R2 5%
designator C?, comment 2R2
2.2MR 5% 100mW 0603 Thick Film Resistor; Manufacturer: FOJAN; Manufacturer Part Number: FRC0603J225TS; Voltage Rating: 75V; Supplier: LCSC; Supplier Part Number: C2930031; Resistance: 2R2; Tolerance: 5%; Power: 100mW
footprint RES SMD 0603
pins: 1, 2

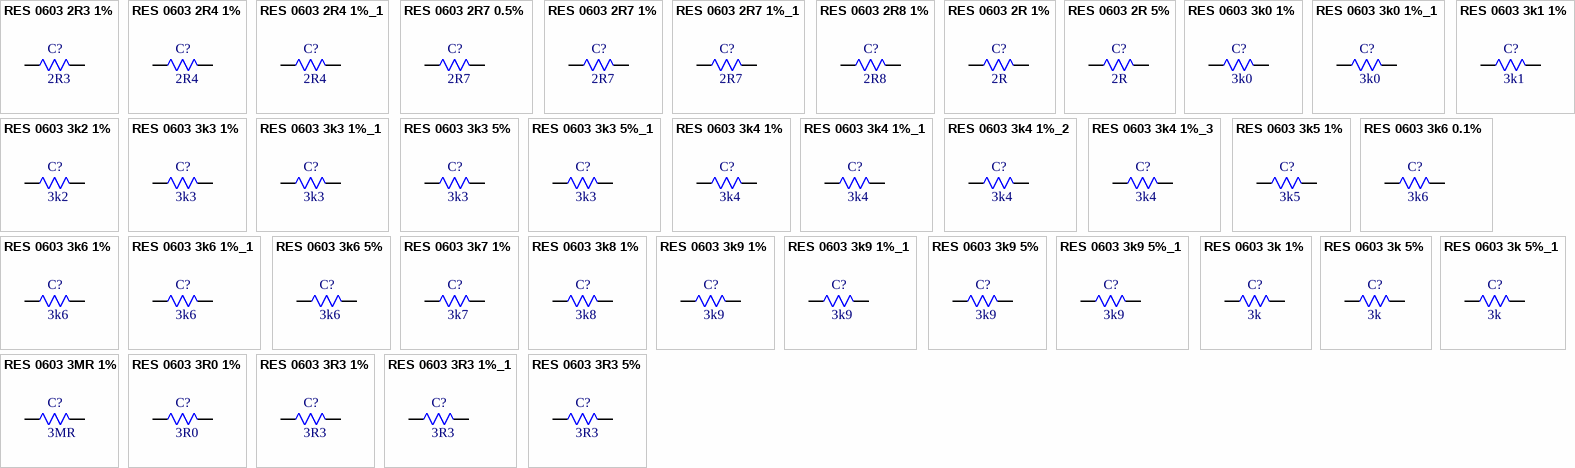
[diagram p18: symbols RES 0603 2R3 1% to RES 0603 3R3 5%]

## RES 0603 2R3 1%
designator C?, comment 2R3
2.37MR 1% 100mW 0603 Thick Film Resistor; Manufacturer: FOJAN; Manufacturer Part Number: FRC0603F2374TS; Voltage Rating: 75V; Supplier: LCSC; Supplier Part Number: C5713283; Resistance: 2R3; Tolerance: 1%; Power: 100mW
footprint RES SMD 0603
pins: 1, 2

## RES 0603 2R4 1%
designator C?, comment 2R4
2.49MR 1% 100mW 0603 Thick Film Resistor; Manufacturer: FOJAN; Manufacturer Part Number: FRC0603F2494TS; Voltage Rating: 75V; Supplier: LCSC; Supplier Part Number: C2999495; Resistance: 2R4; Tolerance: 1%; Power: 100mW
footprint RES SMD 0603
pins: 1, 2

## RES 0603 2R4 1%_1
designator C?, comment 2R4
2.4R 1% 100mW 0603 Thick Film Resistor; Manufacturer: FOJAN; Manufacturer Part Number: FRC0603F2R40TS; Voltage Rating: 75V; Supplier: LCSC; Supplier Part Number: C2998116; Resistance: 2R4; Tolerance: 1%; Power: 100mW
footprint RES SMD 0603
pins: 1, 2

## RES 0603 2R7 0.5%
designator C?, comment 2R7
2.7MR 100mW 75V Thick Film Resistor 100ppm/â„ƒ 0.5% 0603 Chip Resistor - Surface Mount RoHS; Manufacturer: FOJAN; Manufacturer Part Number: FRH0603D2704TS; Supplier: LCSC; Supplier Part Number: C48533720; Resistance: 2R7; Tolerance: 0.5%; Voltage Rating: 75V; Power: 100mW
footprint RES SMD 0603
pins: 1, 2

## RES 0603 2R7 1%
designator C?, comment 2R7
2.7R 1% 100mW 0603 Thick Film Resistor; Manufacturer: FOJAN; Manufacturer Part Number: FRC0603F2R70TS; Voltage Rating: 75V; Supplier: LCSC; Supplier Part Number: C2960664; Resistance: 2R7; Tolerance: 1%; Power: 100mW
footprint RES SMD 0603
pins: 1, 2

## RES 0603 2R7 1%_1
designator C?, comment 2R7
2.7MR 1% 100mW 0603 Thick Film Resistor; Manufacturer: FOJAN; Manufacturer Part Number: FRC0603F2704TS; Voltage Rating: 75V; Supplier: LCSC; Supplier Part Number: C2930147; Resistance: 2R7; Tolerance: 1%; Power: 100mW
footprint RES SMD 0603
pins: 1, 2

## RES 0603 2R8 1%
designator C?, comment 2R8
2.8MR 1% 100mW 0603 Thick Film Resistor; Manufacturer: FOJAN; Manufacturer Part Number: FRC0603F2804TS; Voltage Rating: 75V; Supplier: LCSC; Supplier Part Number: C42372101; Resistance: 2R8; Tolerance: 1%; Power: 100mW
footprint RES SMD 0603
pins: 1, 2

## RES 0603 2R 1%
designator C?, comment 2R
2R 1% 100mW 0603 Thick Film Resistor; Manufacturer: FOJAN; Manufacturer Part Number: FRC0603F2R00TS; Voltage Rating: 75V; Supplier: LCSC; Supplier Part Number: C2933191; Resistance: 2R; Tolerance: 1%; Power: 100mW
footprint RES SMD 0603
pins: 1, 2

## RES 0603 2R 5%
designator C?, comment 2R
2R 5% 100mW 0603 Thick Film Resistor; Manufacturer: FOJAN; Manufacturer Part Number: FRC0603J2R0 TS; Voltage Rating: 75V; Supplier: LCSC; Supplier Part Number: C2907139; Resistance: 2R; Tolerance: 5%; Power: 100mW
footprint RES SMD 0603
pins: 1, 2

## RES 0603 3k0 1%
designator C?, comment 3k0
3.09kR 1% 100mW 0603 Thick Film Resistor; Manufacturer: FOJAN; Manufacturer Part Number: FRC0603F3091TS; Voltage Rating: 75V; Supplier: LCSC; Supplier Part Number: C2933195; Resistance: 3k0; Tolerance: 1%; Power: 100mW
footprint RES SMD 0603
pins: 1, 2

## RES 0603 3k0 1%_1
designator C?, comment 3k0
3.01kR 1% 100mW 0603 Thick Film Resistor; Manufacturer: FOJAN; Manufacturer Part Number: FRC0603F3011TS; Voltage Rating: 75V; Supplier: LCSC; Supplier Part Number: C2933193; Resistance: 3k0; Tolerance: 1%; Power: 100mW
footprint RES SMD 0603
pins: 1, 2

## RES 0603 3k1 1%
designator C?, comment 3k1
3.16kR 1% 100mW 0603 Thick Film Resistor; Manufacturer: FOJAN; Manufacturer Part Number: FRC0603F3161TS; Voltage Rating: 75V; Supplier: LCSC; Supplier Part Number: C2930087; Resistance: 3k1; Tolerance: 1%; Power: 100mW
footprint RES SMD 0603
pins: 1, 2

## RES 0603 3k2 1%
designator C?, comment 3k2
3.24kR 1% 100mW 0603 Thick Film Resistor; Manufacturer: FOJAN; Manufacturer Part Number: FRC0603F3241TS; Voltage Rating: 75V; Supplier: LCSC; Supplier Part Number: C2933197; Resistance: 3k2; Tolerance: 1%; Power: 100mW
footprint RES SMD 0603
pins: 1, 2

## RES 0603 3k3 1%
designator C?, comment 3k3
3.3kR 1% 100mW 0603 Thick Film Resistor; Manufacturer: FOJAN; Manufacturer Part Number: FRC0603F3301TS; Voltage Rating: 75V; Supplier: LCSC; Supplier Part Number: C2907023; Resistance: 3k3; Tolerance: 1%; Power: 100mW
footprint RES SMD 0603
pins: 1, 2

## RES 0603 3k3 1%_1
designator C?, comment 3k3
3.3kR 100mW 75V Thick Film Resistor 1% 100ppm/â„ƒ 0603 Chip Resistor - Surface Mount RoHS; Manufacturer: FOJAN; Manufacturer Part Number: FRQ0603F3301TS; Supplier: LCSC; Supplier Part Number: C7468553; Resistance: 3k3; Tolerance: 1%; Voltage Rating: 75V; Power: 100mW
footprint RES SMD 0603
pins: 1, 2

## RES 0603 3k3 5%
designator C?, comment 3k3
3.3kR 5% 100mW 0603 Thick Film Resistor; Manufacturer: FOJAN; Manufacturer Part Number: FRC0603J332 TS; Voltage Rating: 75V; Supplier: LCSC; Supplier Part Number: C2907140; Resistance: 3k3; Tolerance: 5%; Power: 100mW
footprint RES SMD 0603
pins: 1, 2

## RES 0603 3k3 5%_1
designator C?, comment 3k3
3.3kR 100mW 75V Thick Film Resistor 100ppm/â„ƒ 5% 0603 Chip Resistor - Surface Mount RoHS; Manufacturer: FOJAN; Manufacturer Part Number: FRR0603J332 TS; Supplier: LCSC; Supplier Part Number: C49196804; Resistance: 3k3; Tolerance: 5%; Voltage Rating: 75V; Power: 100mW
footprint RES SMD 0603
pins: 1, 2

## RES 0603 3k4 1%
designator C?, comment 3k4
3.4kR 1% 100mW 0603 Thick Film Resistor; Manufacturer: FOJAN; Manufacturer Part Number: FRC0603F3401TS; Voltage Rating: 75V; Supplier: LCSC; Supplier Part Number: C2933201; Resistance: 3k4; Tolerance: 1%; Power: 100mW
footprint RES SMD 0603
pins: 1, 2

## RES 0603 3k4 1%_1
designator C?, comment 3k4
3.48kR 1% 100mW 0603 Thick Film Resistor; Manufacturer: FOJAN; Manufacturer Part Number: FRC0603F3481TS; Voltage Rating: 75V; Supplier: LCSC; Supplier Part Number: C2998120; Resistance: 3k4; Tolerance: 1%; Power: 100mW
footprint RES SMD 0603
pins: 1, 2

## RES 0603 3k4 1%_2
designator C?, comment 3k4
3.4kR 1% 100mW 0603 Thick Film Resistor AEC-Q200; Manufacturer: FOJAN; Manufacturer Part Number: FRQ0603F3401TS; Voltage Rating: 75V; Supplier: LCSC; Supplier Part Number: C5713437; Resistance: 3k4; Tolerance: 1%; Power: 100mW
footprint RES SMD 0603
pins: 1, 2

## RES 0603 3k4 1%_3
designator C?, comment 3k4
3.4kR 100mW 75V Thick Film Resistor 100ppm/â„ƒ 1% 0603 Chip Resistor - Surface Mount RoHS; Manufacturer: FOJAN; Manufacturer Part Number: FRR0603F3401TS; Supplier: LCSC; Supplier Part Number: C49196774; Resistance: 3k4; Tolerance: 1%; Voltage Rating: 75V; Power: 100mW
footprint RES SMD 0603
pins: 1, 2

## RES 0603 3k5 1%
designator C?, comment 3k5
3.57kR 1% 100mW 0603 Thick Film Resistor; Manufacturer: FOJAN; Manufacturer Part Number: FRC0603F3571TS; Voltage Rating: 75V; Supplier: LCSC; Supplier Part Number: C2933206; Resistance: 3k5; Tolerance: 1%; Power: 100mW
footprint RES SMD 0603
pins: 1, 2

## RES 0603 3k6 0.1%
designator C?, comment 3k6
100mW 3.65kR 75V Thick Film Resistor 100ppm/â„ƒ 0.1% 0603 Chip Resistor - Surface Mount RoHS; Manufacturer: FOJAN; Manufacturer Part Number: FRH0603B3651TS; Supplier: LCSC; Supplier Part Number: C49196674; Resistance: 3k6; Tolerance: 0.1%; Voltage Rating: 75V; Power: 100mW
footprint RES SMD 0603
pins: 1, 2

## RES 0603 3k6 1%
designator C?, comment 3k6
3.6kR 1% 100mW 0603 Thick Film Resistor; Manufacturer: FOJAN; Manufacturer Part Number: FRC0603F3601TS; Voltage Rating: 75V; Supplier: LCSC; Supplier Part Number: C2933208; Resistance: 3k6; Tolerance: 1%; Power: 100mW
footprint RES SMD 0603
pins: 1, 2

## RES 0603 3k6 1%_1
designator C?, comment 3k6
3.65kR 1% 100mW 0603 Thick Film Resistor; Manufacturer: FOJAN; Manufacturer Part Number: FRC0603F3651TS; Voltage Rating: 75V; Supplier: LCSC; Supplier Part Number: C2930089; Resistance: 3k6; Tolerance: 1%; Power: 100mW
footprint RES SMD 0603
pins: 1, 2

## RES 0603 3k6 5%
designator C?, comment 3k6
3.6kR 5% 100mW 0603 Thick Film Resistor; Manufacturer: FOJAN; Manufacturer Part Number: FRC0603J362 TS; Voltage Rating: 75V; Supplier: LCSC; Supplier Part Number: C2907143; Resistance: 3k6; Tolerance: 5%; Power: 100mW
footprint RES SMD 0603
pins: 1, 2

## RES 0603 3k7 1%
designator C?, comment 3k7
3.74kR 1% 100mW 0603 Thick Film Resistor; Manufacturer: FOJAN; Manufacturer Part Number: FRC0603F3741TS; Voltage Rating: 75V; Supplier: LCSC; Supplier Part Number: C2933210; Resistance: 3k7; Tolerance: 1%; Power: 100mW
footprint RES SMD 0603
pins: 1, 2

## RES 0603 3k8 1%
designator C?, comment 3k8
3.83kR 1% 100mW 0603 Thick Film Resistor; Manufacturer: FOJAN; Manufacturer Part Number: FRC0603F3831TS; Voltage Rating: 75V; Supplier: LCSC; Supplier Part Number: C2933213; Resistance: 3k8; Tolerance: 1%; Power: 100mW
footprint RES SMD 0603
pins: 1, 2

## RES 0603 3k9 1%
designator C?, comment 3k9
3.9kR 1% 100mW 0603 Thick Film Resistor; Manufacturer: FOJAN; Manufacturer Part Number: FRC0603F3901TS; Voltage Rating: 75V; Supplier: LCSC; Supplier Part Number: C2907024; Resistance: 3k9; Tolerance: 1%; Power: 100mW
footprint RES SMD 0603
pins: 1, 2

## RES 0603 3k9 1%_1
designator C?, comment 3k9
3.92kR 1% 100mW 0603 Thick Film Resistor; Manufacturer: FOJAN; Manufacturer Part Number: FRC0603F3921TS; Voltage Rating: 75V; Supplier: LCSC; Supplier Part Number: C2933215; Resistance: 3k9; Tolerance: 1%; Power: 100mW
footprint RES SMD 0603
pins: 1, 2

## RES 0603 3k9 5%
designator C?, comment 3k9
3.9kR 5% 100mW 0603 Thick Film Resistor; Manufacturer: FOJAN; Manufacturer Part Number: FRC0603J392 TS; Voltage Rating: 75V; Supplier: LCSC; Supplier Part Number: C2907145; Resistance: 3k9; Tolerance: 5%; Power: 100mW
footprint RES SMD 0603
pins: 1, 2

## RES 0603 3k9 5%_1
designator C?, comment 3k9
100mW 3.9kR 75V Thick Film Resistor 100ppm/â„ƒ 5% 0603 Chip Resistor - Surface Mount RoHS; Manufacturer: FOJAN; Manufacturer Part Number: FRR0603J392 TS; Supplier: LCSC; Supplier Part Number: C49196805; Resistance: 3k9; Tolerance: 5%; Voltage Rating: 75V; Power: 100mW
footprint RES SMD 0603
pins: 1, 2

## RES 0603 3k 1%
designator C?, comment 3k
3kR 1% 100mW 0603 Thick Film Resistor; Manufacturer: FOJAN; Manufacturer Part Number: FRC0603F3001TS; Voltage Rating: 75V; Supplier: LCSC; Supplier Part Number: C2907033; Resistance: 3k; Tolerance: 1%; Power: 100mW
footprint RES SMD 0603
pins: 1, 2

## RES 0603 3k 5%
designator C?, comment 3k
3kR 5% 100mW 0603 Thick Film Resistor; Manufacturer: FOJAN; Manufacturer Part Number: FRC0603J302 TS; Voltage Rating: 75V; Supplier: LCSC; Supplier Part Number: C2907162; Resistance: 3k; Tolerance: 5%; Power: 100mW
footprint RES SMD 0603
pins: 1, 2

## RES 0603 3k 5%_1
designator C?, comment 3k
100mW 3kR 75V Thick Film Resistor 5% 0603 Chip Resistor - Surface Mount RoHS; Manufacturer: FOJAN; Manufacturer Part Number: FRR0603J302 TS; Supplier: LCSC; Supplier Part Number: C51048111; Resistance: 3k; Tolerance: 5%; Voltage Rating: 75V; Power: 100mW
footprint RES SMD 0603
pins: 1, 2

## RES 0603 3MR 1%
designator C?, comment 3MR
3MR 1% 100mW 0603 Thick Film Resistor; Manufacturer: FOJAN; Manufacturer Part Number: FRC0603F3004TS; Voltage Rating: 75V; Supplier: LCSC; Supplier Part Number: C2930149; Resistance: 3MR; Tolerance: 1%; Power: 100mW
footprint RES SMD 0603
pins: 1, 2

## RES 0603 3R0 1%
designator C?, comment 3R0
3.01MR 100mW 75V Thick Film Resistor 1% 0603 Chip Resistor - Surface Mount RoHS; Manufacturer: FOJAN; Manufacturer Part Number: FRC0603F3014TS; Supplier: LCSC; Supplier Part Number: C51048354; Resistance: 3R0; Tolerance: 1%; Voltage Rating: 75V; Power: 100mW
footprint RES SMD 0603
pins: 1, 2

## RES 0603 3R3 1%
designator C?, comment 3R3
3.3R 1% 100mW 0603 Thick Film Resistor; Manufacturer: FOJAN; Manufacturer Part Number: FRC0603F3R30TS; Voltage Rating: 75V; Supplier: LCSC; Supplier Part Number: C2930016; Resistance: 3R3; Tolerance: 1%; Power: 100mW
footprint RES SMD 0603
pins: 1, 2

## RES 0603 3R3 1%_1
designator C?, comment 3R3
3.3MR 1% 100mW 0603 Thick Film Resistor; Manufacturer: FOJAN; Manufacturer Part Number: FRC0603F3304TS; Voltage Rating: 75V; Supplier: LCSC; Supplier Part Number: C2933199; Resistance: 3R3; Tolerance: 1%; Power: 100mW
footprint RES SMD 0603
pins: 1, 2

## RES 0603 3R3 5%
designator C?, comment 3R3
3.3R 100mW 75V Thick Film Resistor 5% 200ppm/â„ƒ 0603 Chip Resistor - Surface Mount RoHS; Manufacturer: FOJAN; Manufacturer Part Number: FRR0603J3R3 TS; Supplier: LCSC; Supplier Part Number: C49196806; Resistance: 3R3; Tolerance: 5%; Voltage Rating: 75V; Power: 100mW
footprint RES SMD 0603
pins: 1, 2

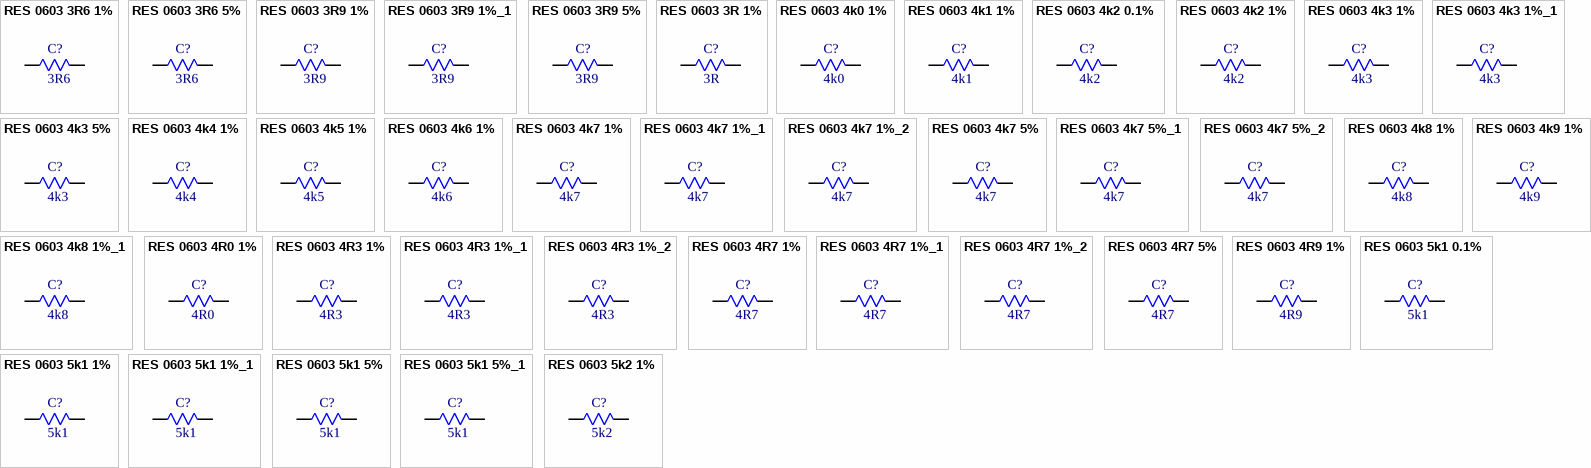
[diagram p19: symbols RES 0603 3R6 1% to RES 0603 5k2 1%]

## RES 0603 3R6 1%
designator C?, comment 3R6
3.6R 1% 100mW 0603 Thick Film Resistor; Manufacturer: FOJAN; Manufacturer Part Number: FRC0603F3R60TS; Voltage Rating: 75V; Supplier: LCSC; Supplier Part Number: C3013200; Resistance: 3R6; Tolerance: 1%; Power: 100mW
footprint RES SMD 0603
pins: 1, 2

## RES 0603 3R6 5%
designator C?, comment 3R6
3.6R 5% 100mW 0603 Thick Film Resistor; Manufacturer: FOJAN; Manufacturer Part Number: FRC0603J3R6 TS; Voltage Rating: 75V; Supplier: LCSC; Supplier Part Number: C2907144; Resistance: 3R6; Tolerance: 5%; Power: 100mW
footprint RES SMD 0603
pins: 1, 2

## RES 0603 3R9 1%
designator C?, comment 3R9
3.9R 1% 100mW 0603 Thick Film Resistor; Manufacturer: FOJAN; Manufacturer Part Number: FRC0603F3R90TS; Voltage Rating: 75V; Supplier: LCSC; Supplier Part Number: C2933216; Resistance: 3R9; Tolerance: 1%; Power: 100mW
footprint RES SMD 0603
pins: 1, 2

## RES 0603 3R9 1%_1
designator C?, comment 3R9
3.9MR 1% 100mW 0603 Thick Film Resistor; Manufacturer: FOJAN; Manufacturer Part Number: FRC0603F3904TS; Voltage Rating: 75V; Supplier: LCSC; Supplier Part Number: C3013199; Resistance: 3R9; Tolerance: 1%; Power: 100mW
footprint RES SMD 0603
pins: 1, 2

## RES 0603 3R9 5%
designator C?, comment 3R9
3.9R 5% 100mW 0603 Thick Film Resistor; Manufacturer: FOJAN; Manufacturer Part Number: FRC0603J3R9 TS; Voltage Rating: 75V; Supplier: LCSC; Supplier Part Number: C2907146; Resistance: 3R9; Tolerance: 5%; Power: 100mW
footprint RES SMD 0603
pins: 1, 2

## RES 0603 3R 1%
designator C?, comment 3R
3R 1% 100mW 0603 Thick Film Resistor; Manufacturer: FOJAN; Manufacturer Part Number: FRC0603F3R00TS; Voltage Rating: 75V; Supplier: LCSC; Supplier Part Number: C2930150; Resistance: 3R; Tolerance: 1%; Power: 100mW
footprint RES SMD 0603
pins: 1, 2

## RES 0603 4k0 1%
designator C?, comment 4k0
4.02kR 1% 100mW 0603 Thick Film Resistor; Manufacturer: FOJAN; Manufacturer Part Number: FRC0603F4021TS; Voltage Rating: 75V; Supplier: LCSC; Supplier Part Number: C2933217; Resistance: 4k0; Tolerance: 1%; Power: 100mW
footprint RES SMD 0603
pins: 1, 2

## RES 0603 4k1 1%
designator C?, comment 4k1
4.12kR 1% 100mW 0603 Thick Film Resistor; Manufacturer: FOJAN; Manufacturer Part Number: FRC0603F4121TS; Voltage Rating: 75V; Supplier: LCSC; Supplier Part Number: C2960702; Resistance: 4k1; Tolerance: 1%; Power: 100mW
footprint RES SMD 0603
pins: 1, 2

## RES 0603 4k2 0.1%
designator C?, comment 4k2
100mW 4.22kR 75V Thick Film Resistor 100ppm/â„ƒ 0.1% 0603 Chip Resistor - Surface Mount RoHS; Manufacturer: FOJAN; Manufacturer Part Number: FRH0603B4221TS; Supplier: LCSC; Supplier Part Number: C49196690; Resistance: 4k2; Tolerance: 0.1%; Voltage Rating: 75V; Power: 100mW
footprint RES SMD 0603
pins: 1, 2

## RES 0603 4k2 1%
designator C?, comment 4k2
4.22kR 1% 100mW 0603 Thick Film Resistor; Manufacturer: FOJAN; Manufacturer Part Number: FRC0603F4221TS; Voltage Rating: 75V; Supplier: LCSC; Supplier Part Number: C3000720; Resistance: 4k2; Tolerance: 1%; Power: 100mW
footprint RES SMD 0603
pins: 1, 2

## RES 0603 4k3 1%
designator C?, comment 4k3
4.3kR 1% 100mW 0603 Thick Film Resistor; Manufacturer: FOJAN; Manufacturer Part Number: FRC0603F4301TS; Voltage Rating: 75V; Supplier: LCSC; Supplier Part Number: C2930099; Resistance: 4k3; Tolerance: 1%; Power: 100mW
footprint RES SMD 0603
pins: 1, 2

## RES 0603 4k3 1%_1
designator C?, comment 4k3
4.32kR 1% 100mW 0603 Thick Film Resistor; Manufacturer: FOJAN; Manufacturer Part Number: FRC0603F4321TS; Voltage Rating: 75V; Supplier: LCSC; Supplier Part Number: C2933221; Resistance: 4k3; Tolerance: 1%; Power: 100mW
footprint RES SMD 0603
pins: 1, 2

## RES 0603 4k3 5%
designator C?, comment 4k3
4.3kR 5% 100mW 0603 Thick Film Resistor AEC-Q200; Manufacturer: FOJAN; Manufacturer Part Number: FRQ0603J432 TS; Voltage Rating: 75V; Supplier: LCSC; Supplier Part Number: C5713446; Resistance: 4k3; Tolerance: 5%; Power: 100mW
footprint RES SMD 0603
pins: 1, 2

## RES 0603 4k4 1%
designator C?, comment 4k4
4.42kR 1% 100mW 0603 Thick Film Resistor; Manufacturer: FOJAN; Manufacturer Part Number: FRC0603F4421TS; Voltage Rating: 75V; Supplier: LCSC; Supplier Part Number: C2933223; Resistance: 4k4; Tolerance: 1%; Power: 100mW
footprint RES SMD 0603
pins: 1, 2

## RES 0603 4k5 1%
designator C?, comment 4k5
4.53kR 1% 100mW 0603 Thick Film Resistor; Manufacturer: FOJAN; Manufacturer Part Number: FRC0603F4531TS; Voltage Rating: 75V; Supplier: LCSC; Supplier Part Number: C3000721; Resistance: 4k5; Tolerance: 1%; Power: 100mW
footprint RES SMD 0603
pins: 1, 2

## RES 0603 4k6 1%
designator C?, comment 4k6
4.64kR 1% 100mW 0603 Thick Film Resistor; Manufacturer: FOJAN; Manufacturer Part Number: FRC0603F4641TS; Voltage Rating: 75V; Supplier: LCSC; Supplier Part Number: C2999578; Resistance: 4k6; Tolerance: 1%; Power: 100mW
footprint RES SMD 0603
pins: 1, 2

## RES 0603 4k7 1%
designator C?, comment 4k7
4.7kR 1% 100mW 0603 Thick Film Resistor; Manufacturer: FOJAN; Manufacturer Part Number: FRC0603F4701TS; Voltage Rating: 75V; Supplier: LCSC; Supplier Part Number: C2907034; Resistance: 4k7; Tolerance: 1%; Power: 100mW
footprint RES SMD 0603
pins: 1, 2

## RES 0603 4k7 1%_1
designator C?, comment 4k7
4.7kR 1% 100mW 0603 Thick Film Resistor AEC-Q200; Manufacturer: FOJAN; Manufacturer Part Number: FRQ0603F4701TS; Voltage Rating: 75V; Supplier: LCSC; Supplier Part Number: C5713440; Resistance: 4k7; Tolerance: 1%; Power: 100mW
footprint RES SMD 0603
pins: 1, 2

## RES 0603 4k7 1%_2
designator C?, comment 4k7
4.7kR 100mW 75V Thick Film Resistor 1% 0603 Chip Resistor - Surface Mount RoHS; Manufacturer: FOJAN; Manufacturer Part Number: FRR0603F4701TS; Supplier: LCSC; Supplier Part Number: C51048199; Resistance: 4k7; Tolerance: 1%; Voltage Rating: 75V; Power: 100mW
footprint RES SMD 0603
pins: 1, 2

## RES 0603 4k7 5%
designator C?, comment 4k7
4.7kR 5% 100mW 0603 Thick Film Resistor; Manufacturer: FOJAN; Manufacturer Part Number: FRC0603J472 TS; Voltage Rating: 75V; Supplier: LCSC; Supplier Part Number: C2907166; Resistance: 4k7; Tolerance: 5%; Power: 100mW
footprint RES SMD 0603
pins: 1, 2

## RES 0603 4k7 5%_1
designator C?, comment 4k7
100mW 4.7kR 75V Thick Film Resistor 100ppm/â„ƒ 5% 0603 Chip Resistor - Surface Mount RoHS; Manufacturer: FOJAN; Manufacturer Part Number: FRR0603J472 TS; Supplier: LCSC; Supplier Part Number: C49196809; Resistance: 4k7; Tolerance: 5%; Voltage Rating: 75V; Power: 100mW
footprint RES SMD 0603
pins: 1, 2

## RES 0603 4k7 5%_2
designator C?, comment 4k7
100mW 4.7kR Thick Film Resistor 5% 100ppm/â„ƒ 0603 Chip Resistor - Surface Mount RoHS; Manufacturer: FOJAN; Manufacturer Part Number: FRQ0603J472 TS; Supplier: LCSC; Supplier Part Number: C7468426; Resistance: 4k7; Tolerance: 5%; Power: 100mW
footprint RES SMD 0603
pins: 1, 2

## RES 0603 4k8 1%
designator C?, comment 4k8
4.87kR 1% 100mW 0603 Thick Film Resistor; Manufacturer: FOJAN; Manufacturer Part Number: FRC0603F4871TS; Voltage Rating: 75V; Supplier: LCSC; Supplier Part Number: C2998129; Resistance: 4k8; Tolerance: 1%; Power: 100mW
footprint RES SMD 0603
pins: 1, 2

## RES 0603 4k8 1%_1
designator C?, comment 4k8
4.87kR 100mW 75V Thick Film Resistor 100ppm/â„ƒ 1% 0603 Chip Resistor - Surface Mount RoHS; Manufacturer: FOJAN; Manufacturer Part Number: FRR0603F4871TS; Supplier: LCSC; Supplier Part Number: C49196777; Resistance: 4k8; Tolerance: 1%; Voltage Rating: 75V; Power: 100mW
footprint RES SMD 0603
pins: 1, 2

## RES 0603 4k9 1%
designator C?, comment 4k9
4.99kR 1% 100mW 0603 Thick Film Resistor; Manufacturer: FOJAN; Manufacturer Part Number: FRC0603F4991TS; Voltage Rating: 75V; Supplier: LCSC; Supplier Part Number: C2933228; Resistance: 4k9; Tolerance: 1%; Power: 100mW
footprint RES SMD 0603
pins: 1, 2

## RES 0603 4R0 1%
designator C?, comment 4R0
4.02R 1% 100mW 0603 Thick Film Resistor; Manufacturer: FOJAN; Manufacturer Part Number: FRC0603F4R02TS; Voltage Rating: 75V; Supplier: LCSC; Supplier Part Number: C2930151; Resistance: 4R0; Tolerance: 1%; Power: 100mW
footprint RES SMD 0603
pins: 1, 2

## RES 0603 4R3 1%
designator C?, comment 4R3
4.3R 1% 100mW 0603 Thick Film Resistor; Manufacturer: FOJAN; Manufacturer Part Number: FRC0603F4R30TS; Voltage Rating: 75V; Supplier: LCSC; Supplier Part Number: C2933230; Resistance: 4R3; Tolerance: 1%; Power: 100mW
footprint RES SMD 0603
pins: 1, 2

## RES 0603 4R3 1%_1
designator C?, comment 4R3
4.3MR 1% 100mW 0603 Thick Film Resistor; Manufacturer: FOJAN; Manufacturer Part Number: FRC0603F4304TS; Voltage Rating: 75V; Supplier: LCSC; Supplier Part Number: C2930152; Resistance: 4R3; Tolerance: 1%; Power: 100mW
footprint RES SMD 0603
pins: 1, 2

## RES 0603 4R3 1%_2
designator C?, comment 4R3
4.32R 1% 100mW 0603 Thick Film Resistor; Manufacturer: FOJAN; Manufacturer Part Number: FRC0603F4R32TS; Voltage Rating: 75V; Supplier: LCSC; Supplier Part Number: C5713291; Resistance: 4R3; Tolerance: 1%; Power: 100mW
footprint RES SMD 0603
pins: 1, 2

## RES 0603 4R7 1%
designator C?, comment 4R7
4.7R 1% 100mW 0603 Thick Film Resistor; Manufacturer: FOJAN; Manufacturer Part Number: FRC0603F4R70TS; Voltage Rating: 75V; Supplier: LCSC; Supplier Part Number: C2907035; Resistance: 4R7; Tolerance: 1%; Power: 100mW
footprint RES SMD 0603
pins: 1, 2

## RES 0603 4R7 1%_1
designator C?, comment 4R7
4.7MR 1% 100mW 0603 Thick Film Resistor; Manufacturer: FOJAN; Manufacturer Part Number: FRC0603F4704TS; Voltage Rating: 75V; Supplier: LCSC; Supplier Part Number: C2930153; Resistance: 4R7; Tolerance: 1%; Power: 100mW
footprint RES SMD 0603
pins: 1, 2

## RES 0603 4R7 1%_2
designator C?, comment 4R7
4.75MR 1% 100mW 0603 Thick Film Resistor; Manufacturer: FOJAN; Manufacturer Part Number: FRC0603F4754TS; Voltage Rating: 75V; Supplier: LCSC; Supplier Part Number: C2998124; Resistance: 4R7; Tolerance: 1%; Power: 100mW
footprint RES SMD 0603
pins: 1, 2

## RES 0603 4R7 5%
designator C?, comment 4R7
4.7MR 5% 100mW 0603 Thick Film Resistor; Manufacturer: FOJAN; Manufacturer Part Number: FRC0603J475 TS; Voltage Rating: 75V; Supplier: LCSC; Supplier Part Number: C2907167; Resistance: 4R7; Tolerance: 5%; Power: 100mW
footprint RES SMD 0603
pins: 1, 2

## RES 0603 4R9 1%
designator C?, comment 4R9
4.99R 1% 100mW 0603 Thick Film Resistor; Manufacturer: FOJAN; Manufacturer Part Number: FRC0603F4R99TS; Voltage Rating: 75V; Supplier: LCSC; Supplier Part Number: C2933231; Resistance: 4R9; Tolerance: 1%; Power: 100mW
footprint RES SMD 0603
pins: 1, 2

## RES 0603 5k1 0.1%
designator C?, comment 5k1
100mW 5.1kR 75V Thick Film Resistor 100ppm/â„ƒ 0.1% 0603 Chip Resistor - Surface Mount RoHS; Manufacturer: FOJAN; Manufacturer Part Number: FRH0603B5101TS; Supplier: LCSC; Supplier Part Number: C49196686; Resistance: 5k1; Tolerance: 0.1%; Voltage Rating: 75V; Power: 100mW
footprint RES SMD 0603
pins: 1, 2